# Altium integrated library Linear Technology PMIC-Switching Reg LTC1174-LTC3901.IntLib: 2647 symbols (part 238 of 310)
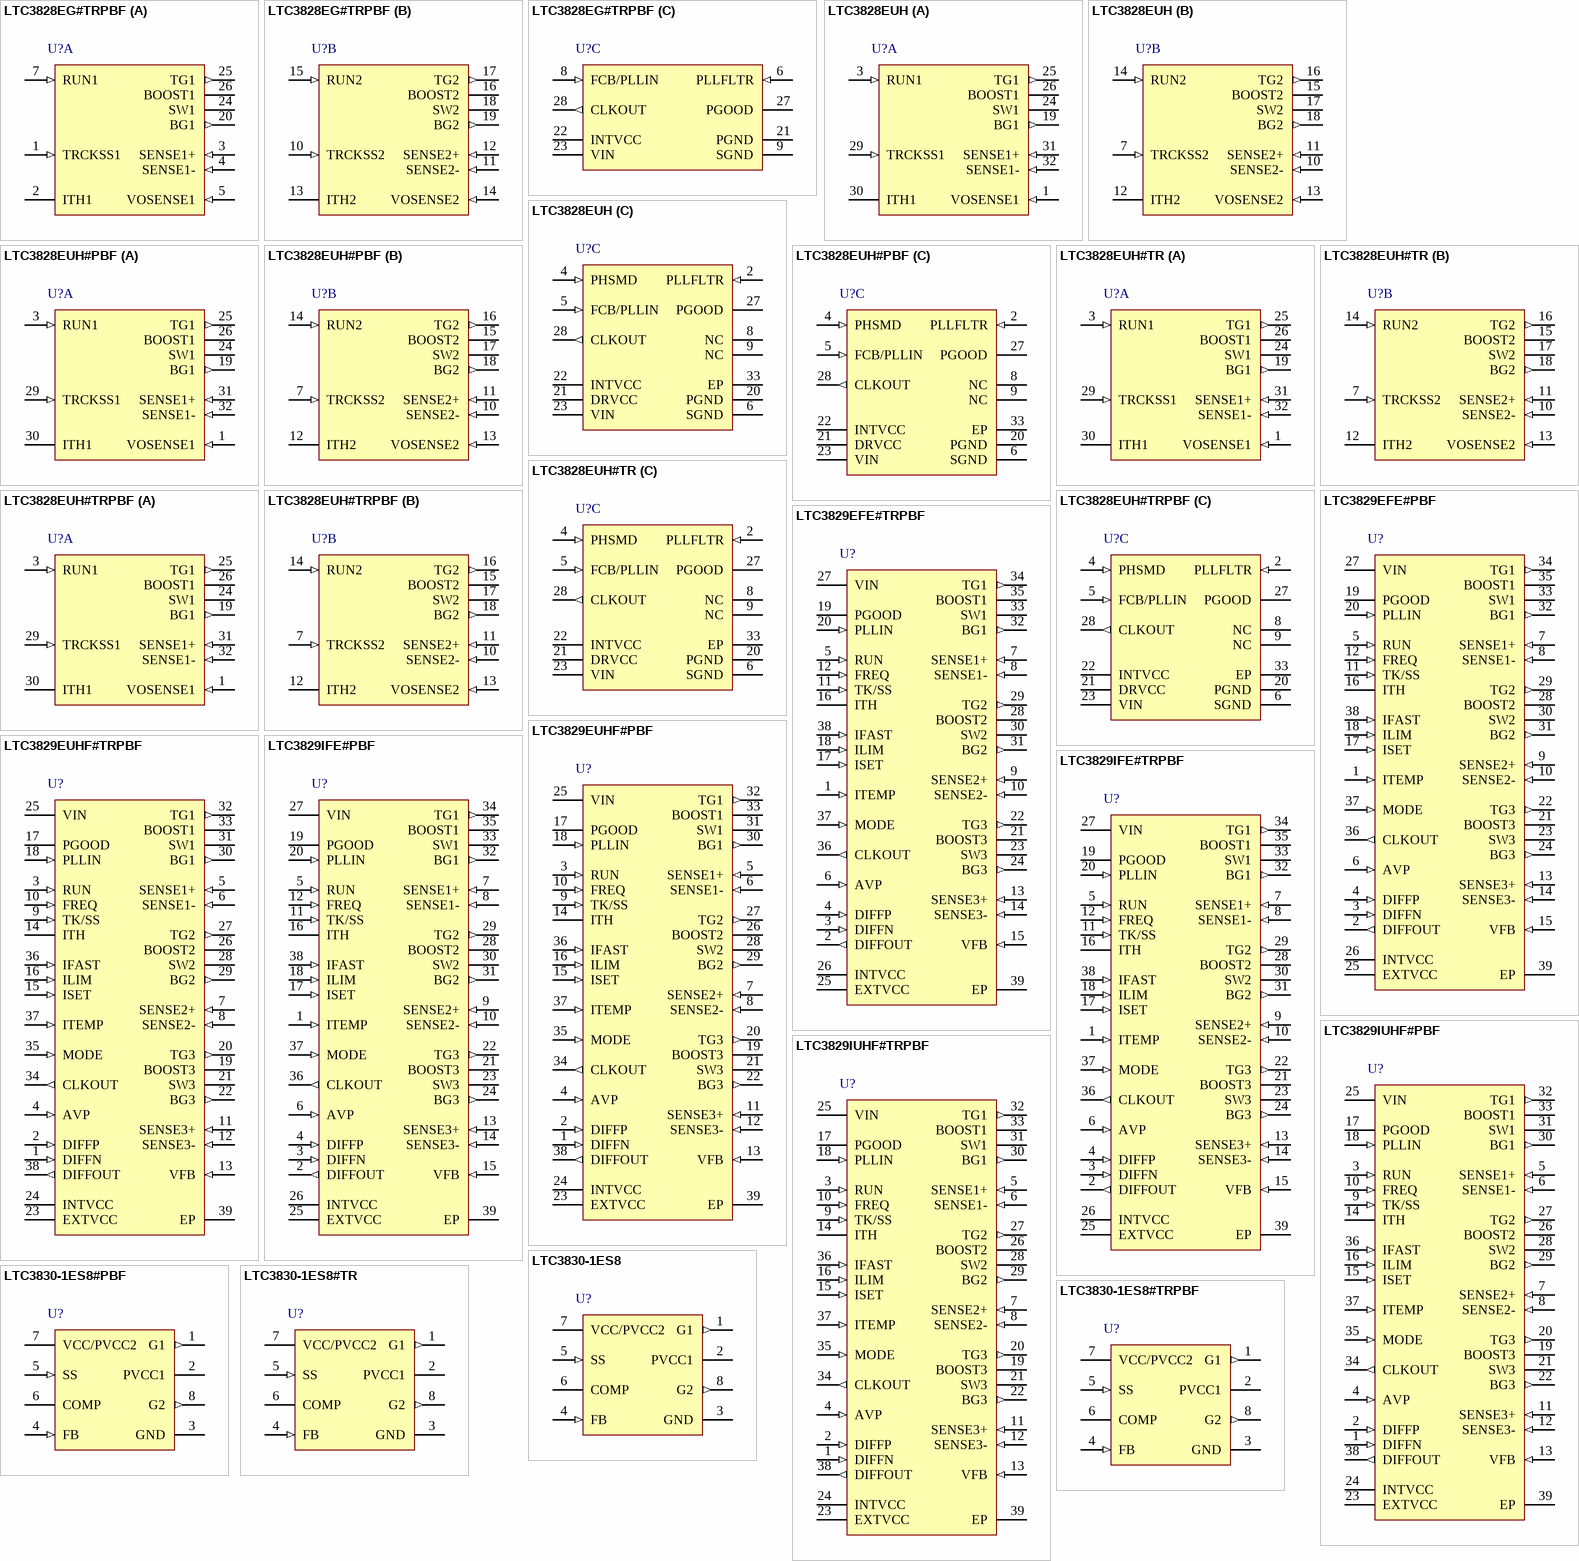
[diagram p256: symbols LTC3828EG#TRPBF to LTC3830-1ES8#TRPBF]

## LTC3829IFE#TRPBF
designator U?
3-Phase, Single Output Synchronous Step-Down DC/DC Controller with Differential Amplifier, 38-pin SOP (FE-38-EPV-AA), -40 to 125 degC, Pb-Free, Tape and Reel; Manufacturer: Linear Technology; PartNumber: LTC3829IFE#TRPBF; Number of Outputs: 1; PackageReference: FE-38; PackageDescription: 38-Pin Plastic TSSOP, Body 9.7 x 4.4 mm, Pitch 0.5 mm; Supplier 1: Digi-Key; Supplier Part Number 1: LTC3829IFE#TRPBF-ND; RoHS: TRUE
footprint LT-FE-38-EPV-AA_N (SOP, 38-Leads, Body 9.8x4.5mm, Pitch 0.5mm, Thermal Pad 4.75x2.74mm, IPC Medium Density)
footprint LT-FE-38-EPV-AA_L (SOP, 38-Leads, Body 9.8x4.5mm, Pitch 0.5mm, Thermal Pad 4.75x2.74mm, IPC High Density)
footprint LT-FE-38-EPV-AA_M (SOP, 38-Leads, Body 9.8x4.5mm, Pitch 0.5mm, Thermal Pad 4.75x2.74mm, IPC Low Density)
pins: 1 ITEMP (in) "Input of the Temperature Sensing Comparator. Connect this pin to external NTC resistors placed near inductors.", 2 DIFFOUT (out) "Output of Remote Sensing Differential Amplifier. Connect this pin to VFB through a resistive divider.", 3 DIFFN (in) "Negative Input of Remote Sensing Differential Amplifier. Connect this to the remote load ground pin.", 4 DIFFP (in) "Positive Input of Remote Sensing Differential Amplifier. Must connect this to the remote load positive terminal directly even when diffamp is not used.", 5 RUN (in) "Run Control Input. A voltage above 1.22V on this pin turns on the IC. There is a 1.0uA pull-up current for this pin. Once the RUN pin rises above 1.22V, an additional 4.5uA pull-up current is added to the pin.", 6 AVP (in) "Active Voltage Positioning Load Slope Programming Pin. A resistor tied between this pin and the DIFFP pin sets the load slope. The AVP function can only be used with the remote sensing differential amplifier. Short AVP pin (See Datasheet)", 7 SENSE1+ (in) "Current Sense Comparator Inputs. The (+) inputs to the current comparators are normally connected to DCR sensing networks or current sensing resistors.", 8 SENSE1- (in) "Current Sense Comparator Inputs. The (-) inputs to the current comparators are connected to the output.", 9 SENSE2+ (in) "Current Sense Comparator Inputs. The (+) inputs to the current comparators are normally connected to DCR sensing networks or current sensing resistors", 10 SENSE2- (in) "Current Sense Comparator Inputs. The (-) inputs to the current comparators are connected to the output.", 11 TK/SS (in) "Output Voltage Tracking and Soft- Start Input. When one particular IC is configured to be the master of two ICs, a capacitor to ground at this pin sets the ramp rate for the master IC’s output voltage. When the IC i(See Datasheet)", 12 FREQ (in) "There is a precision 10uA current sourced out of this pin. A resistor to ground sets a voltage which in turn programs the frequency. Alternatively, this pin can be driven with a DC voltage to vary the frequency of the (See Datasheet)", 13 SENSE3+ (in) "Current Sense Comparator Inputs. The (+) inputs to the current comparators are normally connected to DCR sensing networks or current sensing resistors.", 14 SENSE3- (in) "Current Sense Comparator Inputs. The (-) inputs to the current comparators are connected to the output.", 15 VFB (in) "Error Amplifier Feedback Input. This pin receives the remotely sensed feedback voltage from an external resistive divider", 16 ITH "Current Control Threshold and Error Amplifier Compensation Point. Each associated channels?current comparator tripping threshold increases with this ITH control voltage.", 17 ISET (in) "Stage Shedding Comparator and Burst Mode Comparator Programming Pin. A resistor to ground programs the stage shedding comparator threshold or Burst Mode comparator threshold and its current limit depending on MODE pin (See Datasheet)", 18 ILIM (in) "Current Comparator Sense Voltage Range Pin. This pin is to be programmed to SGND, FLOAT or INTVCC to set the maximum current sense threshold to one of three different levels for each comparator.", 19 PGOOD (oc) "Power Good Indicator Output. Open-drain logic out that is pulled to ground when the output exceeds +/-10% regulation window after the internal 100us power bad mask timer expires.", 20 PLLIN (in) "External Synchronization Pin. A clock on the pin synchronizes the internal oscillator with the clock on this pin.", 21 BOOST3 "Boosted Floating Driver Supplies. The (+) terminal of the bootstrap capacitors connect to these pins. These pins swing from a diode voltage drop below INTVCC up to VIN + INTVCC.", 22 TG3 (out) "Top Gate Driver Outputs. These are the outputs of floating drivers with a voltage swing equal to INTVCC superimposed on the switch nodes voltages.", 23 SW3 "Switch Node Connections to Inductors. Voltage swing at these pins is from a Schottky diode (external) voltage drop below ground to VIN", 24 BG3 (out) "Bottom Gate Driver Outputs. These pins drive the gates of the bottom N-channel MOSFETs between PGND and INTVCC.", 25 EXTVCC (power) "External Power Input to an Internal Switch Connected to INTVCC. This switch closes and supplies the IC power, bypassing the internal low dropout regulator, whenever EXTVCC is higher than 4.7V. Do not exceed 6V on this pin (See Datasheet)", 26 INTVCC (power) "Internal 5V Regulator Output. The control circuits are powered from this voltage. Decouple this pin to PGND with a minimum of 4.7uF low ESR tantalum or ceramic capacitor.", 27 VIN (power) "Main Input Supply. Decouple this pin to PGND with a capacitor (0.1uF to 1uF).", 28 BOOST2 "Boosted Floating Driver Supplies. The (+) terminal of the bootstrap capacitors connect to these pins. These pins swing from a diode voltage drop below INTVCC up to VIN + INTVCC.", 29 TG2 (out) "Top Gate Driver Outputs. These are the outputs of floating drivers with a voltage swing equal to INTVCC superimposed on the switch nodes voltages.", 30 SW2 "Switch Node Connections to Inductors. Voltage swing at these pins is from a Schottky diode (external) voltage drop below ground to VIN", 31 BG2 (out) "Bottom Gate Driver Outputs. These pins drive the gates of the bottom N-channel MOSFETs between PGND and INTVCC.", 32 BG1 (out) "Bottom Gate Driver Outputs. These pins drive the gates of the bottom N-channel MOSFETs between PGND and INTVCC.", 33 SW1 "Switch Node Connections to Inductors. Voltage swing at these pins is from a Schottky diode (external) voltage drop below ground to VIN", 34 TG1 (out) "Top Gate Driver Outputs. These are the outputs of floating drivers with a voltage swing equal to INTVCC superimposed on the switch nodes voltages.", 35 BOOST1 "Boosted Floating Driver Supplies. The (+) terminal of the bootstrap capacitors connect to these pins. These pins swing from a diode voltage drop below INTVCC up to VIN + INTVCC.", 36 CLKOUT (out) "Clock Output Pin. CLKOUT is 60degrees out of phase relative to channel 1 in non-shedding mode. During stage shedding, CLKOUT is 180degrees out of phase with channel 1.", 37 MODE (in) "Forced Continuous Mode, Burst Mode or Shed Mode Selection Pin. Connect this pin to SGND to force IC in continuous mode of operation. Connect to INTVCC to enable shed mode operation. Leave the pin floating to enable Burst (See Datasheet)", 38 IFAST (in) "Programmable Pin for Nonlinear Control Trip Threshold. A resistor to ground programs the tripping threshold for nonlinear control circuit. Connect this pin to INTVCC to disable this feature. See Applications Information (See Datasheet)", 39 EP (power) "Combined Signal and Power Ground Pad. Connect this pad closely to the sources of the bottom N-channel MOSFETs, the (-) terminal of CVCC and the (-) terminal of CIN. All small-signal components and compensation components (See Datasheet)"

## LTC3829IUHF#PBF
designator U?
3-Phase, Single Output Synchronous Step-Down DC/DC Controller with Differential Amplifier, 38-pin QFN (UHF-38), -40 to 125 degC, Pb-Free; Manufacturer: Linear Technology; PartNumber: LTC3829IUHF#PBF; Number of Outputs: 1; PackageReference: UHF-38; PackageDescription: 38-Pin Plastic QFN, Body 7 x 5 mm, Pitch 0.5 mm; Supplier 1: Digi-Key; Supplier Part Number 1: LTC3829IUHF#PBF-ND; RoHS: TRUE; Code_JEDEC: MO-220
footprint LT-UHF-38_N (QFN, 38-Leads, Body 7.1x5.1mm, Pitch 0.5mm, Thermal Pad 3.15x5.15mm, IPC Medium Density)
footprint LT-UHF-38_L (QFN, 38-Leads, Body 7.1x5.1mm, Pitch 0.5mm, Thermal Pad 3.15x5.15mm, IPC High Density)
footprint LT-UHF-38_M (QFN, 38-Leads, Body 7.1x5.1mm, Pitch 0.5mm, Thermal Pad 3.15x5.15mm, IPC Low Density)
pins: 1 DIFFN (in) "Negative Input of Remote Sensing Differential Amplifier. Connect this to the remote load ground pin.", 2 DIFFP (in) "Positive Input of Remote Sensing Differential Amplifier. Must connect this to the remote load positive terminal directly even when diffamp is not used.", 3 RUN (in) "Run Control Input. A voltage above 1.22V on this pin turns on the IC. There is a 1.0uA pull-up current for this pin. Once the RUN pin rises above 1.22V, an additional 4.5uA pull-up current is added to the pin.", 4 AVP (in) "Active Voltage Positioning Load Slope Programming Pin. A resistor tied between this pin and the DIFFP pin sets the load slope. The AVP function can only be used with the remote sensing differential amplifier. Short AVP pin (See Datasheet)", 5 SENSE1+ (in) "Current Sense Comparator Inputs. The (+) inputs to the current comparators are normally connected to DCR sensing networks or current sensing resistors.", 6 SENSE1- (in) "Current Sense Comparator Inputs. The (-) inputs to the current comparators are connected to the output.", 7 SENSE2+ (in) "Current Sense Comparator Inputs. The (+) inputs to the current comparators are normally connected to DCR sensing networks or current sensing resistors.", 8 SENSE2- (in) "Current Sense Comparator Inputs. The (-) inputs to the current comparators are connected to the output.", 9 TK/SS (in) "Output Voltage Tracking and Soft- Start Input. When one particular IC is configured to be the master of two ICs, a capacitor to ground at this pin sets the ramp rate for the master IC’s output voltage. When the IC i(See Datasheet)", 10 FREQ (in) "There is a precision 10uA current sourced out of this pin. A resistor to ground sets a voltage which in turn programs the frequency. Alternatively, this pin can be driven with a DC voltage to vary the frequency of the (See Datasheet)", 11 SENSE3+ (in) "Current Sense Comparator Inputs. The (+) inputs to the current comparators are normally connected to DCR sensing networks or current sensing resistors.", 12 SENSE3- (in) "Current Sense Comparator Inputs. The (-) inputs to the current comparators are connected to the output.", 13 VFB (in) "Error Amplifier Feedback Input. This pin receives the remotely sensed feedback voltage from an external resistive divider", 14 ITH "Current Control Threshold and Error Amplifier Compensation Point. Each associated channels?current comparator tripping threshold increases with this ITH control voltage.", 15 ISET (in) "Stage Shedding Comparator and Burst Mode Comparator Programming Pin. A resistor to ground programs the stage shedding comparator threshold or Burst Mode comparator threshold and its current limit depending on MODE pin (See Datasheet)", 16 ILIM (in) "Current Comparator Sense Voltage Range Pin. This pin is to be programmed to SGND, FLOAT or INTVCC to set the maximum current sense threshold to one of three different levels for each comparator.", 17 PGOOD (oc) "Power Good Indicator Output. Open-drain logic out that is pulled to ground when the output exceeds +/-10% regulation window after the internal 100us power bad mask timer expires.", 18 PLLIN (in) "External Synchronization Pin. A clock on the pin synchronizes the internal oscillator with the clock on this pin.", 19 BOOST3 "Boosted Floating Driver Supplies. The (+) terminal of the bootstrap capacitors connect to these pins. These pins swing from a diode voltage drop below INTVCC up to VIN + INTVCC.", 20 TG3 (out) "Top Gate Driver Outputs. These are the outputs of floating drivers with a voltage swing equal to INTVCC superimposed on the switch nodes voltages.", 21 SW3 "Switch Node Connections to Inductors. Voltage swing at these pins is from a Schottky diode (external) voltage drop below ground to VIN.", 22 BG3 (out) "Bottom Gate Driver Outputs. These pins drive the gates of the bottom N-channel MOSFETs between PGND and INTVCC.", 23 EXTVCC (power) "External Power Input to an Internal Switch Connected to INTVCC. This switch closes and supplies the IC power, bypassing the internal low dropout regulator, whenever EXTVCC is higher than 4.7V. Do not exceed 6V on this pin (See Datasheet)", 24 INTVCC (power) "Internal 5V Regulator Output. The control circuits are powered from this voltage. Decouple this pin to PGND with a minimum of 4.7uF low ESR tantalum or ceramic capacitor.", 25 VIN (power) "Main Input Supply. Decouple this pin to PGND with a capacitor (0.1uF to 1uF).", 26 BOOST2 "Boosted Floating Driver Supplies. The (+) terminal of the bootstrap capacitors connect to these pins. These pins swing from a diode voltage drop below INTVCC up to VIN + INTVCC.", 27 TG2 (out) "Top Gate Driver Outputs. These are the outputs of floating drivers with a voltage swing equal to INTVCC superimposed on the switch nodes voltages.", 28 SW2 "Switch Node Connections to Inductors. Voltage swing at these pins is from a Schottky diode (external) voltage drop below ground to VIN.", 29 BG2 (out) "Bottom Gate Driver Outputs. These pins drive the gates of the bottom N-channel MOSFETs between PGND and INTVCC.", 30 BG1 (out) "Bottom Gate Driver Outputs. These pins drive the gates of the bottom N-channel MOSFETs between PGND and INTVCC.", 31 SW1 "Switch Node Connections to Inductors. Voltage swing at these pins is from a Schottky diode (external) voltage drop below ground to VIN.", 32 TG1 (out) "Top Gate Driver Outputs. These are the outputs of floating drivers with a voltage swing equal to INTVCC superimposed on the switch nodes voltages.", 33 BOOST1 "Boosted Floating Driver Supplies. The (+) terminal of the bootstrap capacitors connect to these pins. These pins swing from a diode voltage drop below INTVCC up to VIN + INTVCC.", 34 CLKOUT (out) "Clock Output Pin. CLKOUT is 60degrees out of phase relative to channel 1 in non-shedding mode. During stage shedding, CLKOUT is 180degrees out of phase with channel 1.", 35 MODE (in) "Forced Continuous Mode, Burst Mode or Shed Mode Selection Pin. Connect this pin to SGND to force IC in continuous mode of operation. Connect to INTVCC to enable shed mode operation. Leave the pin floating to enable Burst (See Datasheet)", 36 IFAST (in) "Programmable Pin for Nonlinear Control Trip Threshold. A resistor to ground programs the tripping threshold for nonlinear control circuit. Connect this pin to INTVCC to disable this feature. See Applications Information (See Datasheet)", 37 ITEMP (in) "Input of the Temperature Sensing Comparator. Connect this pin to external NTC resistors placed near inductors.", 38 DIFFOUT (out) "Output of Remote Sensing Differential Amplifier. Connect this pin to VFB through a resistive divider.", 39 EP (power) "Combined Signal and Power Ground Pad. Connect this pad closely to the sources of the bottom N-channel MOSFETs, the (-) terminal of CVCC and the (-) terminal of CIN. All small-signal components and compensation components (See Datasheet)"

## LTC3829IUHF#TRPBF
designator U?
3-Phase, Single Output Synchronous Step-Down DC/DC Controller with Differential Amplifier, 38-pin QFN (UHF-38), -40 to 125 degC, Pb-Free, Tape and Reel; Manufacturer: Linear Technology; PartNumber: LTC3829IUHF#TRPBF; Number of Outputs: 1; PackageReference: UHF-38; PackageDescription: 38-Pin Plastic QFN, Body 7 x 5 mm, Pitch 0.5 mm; Supplier 1: Digi-Key; Supplier Part Number 1: LTC3829IUHF#TRPBF-ND; RoHS: TRUE; Code_JEDEC: MO-220
footprint LT-UHF-38_N (QFN, 38-Leads, Body 7.1x5.1mm, Pitch 0.5mm, Thermal Pad 3.15x5.15mm, IPC Medium Density)
footprint LT-UHF-38_L (QFN, 38-Leads, Body 7.1x5.1mm, Pitch 0.5mm, Thermal Pad 3.15x5.15mm, IPC High Density)
footprint LT-UHF-38_M (QFN, 38-Leads, Body 7.1x5.1mm, Pitch 0.5mm, Thermal Pad 3.15x5.15mm, IPC Low Density)
pins: 1 DIFFN (in) "Negative Input of Remote Sensing Differential Amplifier. Connect this to the remote load ground pin.", 2 DIFFP (in) "Positive Input of Remote Sensing Differential Amplifier. Must connect this to the remote load positive terminal directly even when diffamp is not used.", 3 RUN (in) "Run Control Input. A voltage above 1.22V on this pin turns on the IC. There is a 1.0uA pull-up current for this pin. Once the RUN pin rises above 1.22V, an additional 4.5uA pull-up current is added to the pin.", 4 AVP (in) "Active Voltage Positioning Load Slope Programming Pin. A resistor tied between this pin and the DIFFP pin sets the load slope. The AVP function can only be used with the remote sensing differential amplifier. Short AVP pin (See Datasheet)", 5 SENSE1+ (in) "Current Sense Comparator Inputs. The (+) inputs to the current comparators are normally connected to DCR sensing networks or current sensing resistors.", 6 SENSE1- (in) "Current Sense Comparator Inputs. The (-) inputs to the current comparators are connected to the output.", 7 SENSE2+ (in) "Current Sense Comparator Inputs. The (+) inputs to the current comparators are normally connected to DCR sensing networks or current sensing resistors.", 8 SENSE2- (in) "Current Sense Comparator Inputs. The (-) inputs to the current comparators are connected to the output.", 9 TK/SS (in) "Output Voltage Tracking and Soft- Start Input. When one particular IC is configured to be the master of two ICs, a capacitor to ground at this pin sets the ramp rate for the master IC’s output voltage. When the IC i(See Datasheet)", 10 FREQ (in) "There is a precision 10uA current sourced out of this pin. A resistor to ground sets a voltage which in turn programs the frequency. Alternatively, this pin can be driven with a DC voltage to vary the frequency of the (See Datasheet)", 11 SENSE3+ (in) "Current Sense Comparator Inputs. The (+) inputs to the current comparators are normally connected to DCR sensing networks or current sensing resistors.", 12 SENSE3- (in) "Current Sense Comparator Inputs. The (-) inputs to the current comparators are connected to the output.", 13 VFB (in) "Error Amplifier Feedback Input. This pin receives the remotely sensed feedback voltage from an external resistive divider", 14 ITH "Current Control Threshold and Error Amplifier Compensation Point. Each associated channels?current comparator tripping threshold increases with this ITH control voltage.", 15 ISET (in) "Stage Shedding Comparator and Burst Mode Comparator Programming Pin. A resistor to ground programs the stage shedding comparator threshold or Burst Mode comparator threshold and its current limit depending on MODE pin (See Datasheet)", 16 ILIM (in) "Current Comparator Sense Voltage Range Pin. This pin is to be programmed to SGND, FLOAT or INTVCC to set the maximum current sense threshold to one of three different levels for each comparator.", 17 PGOOD (oc) "Power Good Indicator Output. Open-drain logic out that is pulled to ground when the output exceeds +/-10% regulation window after the internal 100us power bad mask timer expires.", 18 PLLIN (in) "External Synchronization Pin. A clock on the pin synchronizes the internal oscillator with the clock on this pin.", 19 BOOST3 "Boosted Floating Driver Supplies. The (+) terminal of the bootstrap capacitors connect to these pins. These pins swing from a diode voltage drop below INTVCC up to VIN + INTVCC.", 20 TG3 (out) "Top Gate Driver Outputs. These are the outputs of floating drivers with a voltage swing equal to INTVCC superimposed on the switch nodes voltages.", 21 SW3 "Switch Node Connections to Inductors. Voltage swing at these pins is from a Schottky diode (external) voltage drop below ground to VIN.", 22 BG3 (out) "Bottom Gate Driver Outputs. These pins drive the gates of the bottom N-channel MOSFETs between PGND and INTVCC.", 23 EXTVCC (power) "External Power Input to an Internal Switch Connected to INTVCC. This switch closes and supplies the IC power, bypassing the internal low dropout regulator, whenever EXTVCC is higher than 4.7V. Do not exceed 6V on this pin (See Datasheet)", 24 INTVCC (power) "Internal 5V Regulator Output. The control circuits are powered from this voltage. Decouple this pin to PGND with a minimum of 4.7uF low ESR tantalum or ceramic capacitor.", 25 VIN (power) "Main Input Supply. Decouple this pin to PGND with a capacitor (0.1uF to 1uF).", 26 BOOST2 "Boosted Floating Driver Supplies. The (+) terminal of the bootstrap capacitors connect to these pins. These pins swing from a diode voltage drop below INTVCC up to VIN + INTVCC.", 27 TG2 (out) "Top Gate Driver Outputs. These are the outputs of floating drivers with a voltage swing equal to INTVCC superimposed on the switch nodes voltages.", 28 SW2 "Switch Node Connections to Inductors. Voltage swing at these pins is from a Schottky diode (external) voltage drop below ground to VIN.", 29 BG2 (out) "Bottom Gate Driver Outputs. These pins drive the gates of the bottom N-channel MOSFETs between PGND and INTVCC.", 30 BG1 (out) "Bottom Gate Driver Outputs. These pins drive the gates of the bottom N-channel MOSFETs between PGND and INTVCC.", 31 SW1 "Switch Node Connections to Inductors. Voltage swing at these pins is from a Schottky diode (external) voltage drop below ground to VIN.", 32 TG1 (out) "Top Gate Driver Outputs. These are the outputs of floating drivers with a voltage swing equal to INTVCC superimposed on the switch nodes voltages.", 33 BOOST1 "Boosted Floating Driver Supplies. The (+) terminal of the bootstrap capacitors connect to these pins. These pins swing from a diode voltage drop below INTVCC up to VIN + INTVCC.", 34 CLKOUT (out) "Clock Output Pin. CLKOUT is 60degrees out of phase relative to channel 1 in non-shedding mode. During stage shedding, CLKOUT is 180degrees out of phase with channel 1.", 35 MODE (in) "Forced Continuous Mode, Burst Mode or Shed Mode Selection Pin. Connect this pin to SGND to force IC in continuous mode of operation. Connect to INTVCC to enable shed mode operation. Leave the pin floating to enable Burst (See Datasheet)", 36 IFAST (in) "Programmable Pin for Nonlinear Control Trip Threshold. A resistor to ground programs the tripping threshold for nonlinear control circuit. Connect this pin to INTVCC to disable this feature. See Applications Information (See Datasheet)", 37 ITEMP (in) "Input of the Temperature Sensing Comparator. Connect this pin to external NTC resistors placed near inductors.", 38 DIFFOUT (out) "Output of Remote Sensing Differential Amplifier. Connect this pin to VFB through a resistive divider.", 39 EP (power) "Combined Signal and Power Ground Pad. Connect this pad closely to the sources of the bottom N-channel MOSFETs, the (-) terminal of CVCC and the (-) terminal of CIN. All small-signal components and compensation components (See Datasheet)"

## LTC3830-1ES8
designator U?
High Power Step-Down Synchronous DC/DC Controller for Low Voltage Operation, 8-pin SOIC (S8-8), -40 to 85 degC; Manufacturer: Linear Technology; PartNumber: LTC3830-1ES8; Number of Outputs: 1; PackageReference: S8-8; PackageDescription: 8-Pin Plastic Small Outline (Narrow .150 Inch), Body 4.9 x 3.9 mm, Pitch 1.27 mm; Supplier 1: Digi-Key; Supplier Part Number 1: LTC3830-1ES8-ND; RoHS: FALSE
footprint LT-S8-8_N (SOIC, 8-Leads, Body 5x4mm, Pitch 1.27mm, IPC Medium Density)
footprint LT-S8-8_L (SOIC, 8-Leads, Body 5x4mm, Pitch 1.27mm, IPC High Density)
footprint LT-S8-8_M (SOIC, 8-Leads, Body 5x4mm, Pitch 1.27mm, IPC Low Density)
pins: 1 G1 (out) "Top Gate Driver Output. Connect this pin to the gate of the upper N-channel MOSFET, Q1. This output swings from PGND to PVCC1. It remains low if G2 is high or during shutdown mode.", 2 PVCC1 (power) "Power Supply Input for G1. Connect this pin to a potential of at least VIN + VGS(ON)(Q1). This potential can be generated using an external supply or charge pump.", 3 GND (power) "Signal Ground. All low power internal circuitry returns to this pin.", 4 FB (in) "These three pins connect to the internal resistor divider and input of the error amplifier.", 5 SS (in) "Soft-Start. Connect this pin to an external capacitor, CSS, to implement a soft-start function.", 6 COMP "External Compensation. This pin internally connects to the output of the error amplifier and input of the PWM comparator. Use a RC + C network at this pin to compensate the feedback loop to provide optimum transient response.", 7 VCC/PVCC2 (power), 8 G2 (out) "Bottom Gate Driver Output. Connect this pin to the gate of the lower N-channel MOSFET, Q2. This output swings from PGND to PVCC2. It remains low when G1 is high or during shutdown mode. To prevent output undershoot during a (See Datasheet)"

## LTC3830-1ES8#PBF
designator U?
High Power Step-Down Synchronous DC/DC Controller for Low Voltage Operation, 8-pin SOIC (S8-8), -40 to 85 degC, Pb-Free; Manufacturer: Linear Technology; PartNumber: LTC3830-1ES8#PBF; Number of Outputs: 1; PackageReference: S8-8; PackageDescription: 8-Pin Plastic Small Outline (Narrow .150 Inch), Body 4.9 x 3.9 mm, Pitch 1.27 mm; Supplier 1: Digi-Key; Supplier Part Number 1: LTC3830-1ES8#PBF-ND; RoHS: TRUE
footprint LT-S8-8_N (SOIC, 8-Leads, Body 5x4mm, Pitch 1.27mm, IPC Medium Density)
footprint LT-S8-8_L (SOIC, 8-Leads, Body 5x4mm, Pitch 1.27mm, IPC High Density)
footprint LT-S8-8_M (SOIC, 8-Leads, Body 5x4mm, Pitch 1.27mm, IPC Low Density)
pins: 1 G1 (out) "Top Gate Driver Output. Connect this pin to the gate of the upper N-channel MOSFET, Q1. This output swings from PGND to PVCC1. It remains low if G2 is high or during shutdown mode.", 2 PVCC1 (power) "Power Supply Input for G1. Connect this pin to a potential of at least VIN + VGS(ON)(Q1). This potential can be generated using an external supply or charge pump.", 3 GND (power) "Signal Ground. All low power internal circuitry returns to this pin.", 4 FB (in) "These three pins connect to the internal resistor divider and input of the error amplifier.", 5 SS (in) "Soft-Start. Connect this pin to an external capacitor, CSS, to implement a soft-start function.", 6 COMP "External Compensation. This pin internally connects to the output of the error amplifier and input of the PWM comparator. Use a RC + C network at this pin to compensate the feedback loop to provide optimum transient response.", 7 VCC/PVCC2 (power), 8 G2 (out) "Bottom Gate Driver Output. Connect this pin to the gate of the lower N-channel MOSFET, Q2. This output swings from PGND to PVCC2. It remains low when G1 is high or during shutdown mode. To prevent output undershoot during a (See Datasheet)"

## LTC3830-1ES8#TR
designator U?
High Power Step-Down Synchronous DC/DC Controller for Low Voltage Operation, 8-pin SOIC (S8-8), -40 to 85 degC, Tape and Reel; Manufacturer: Linear Technology; PartNumber: LTC3830-1ES8#TR; Number of Outputs: 1; PackageReference: S8-8; PackageDescription: 8-Pin Plastic Small Outline (Narrow .150 Inch), Body 4.9 x 3.9 mm, Pitch 1.27 mm; Supplier 1: Digi-Key; Supplier Part Number 1: LTC3830-1ES8TR-ND; RoHS: FALSE
footprint LT-S8-8_N (SOIC, 8-Leads, Body 5x4mm, Pitch 1.27mm, IPC Medium Density)
footprint LT-S8-8_L (SOIC, 8-Leads, Body 5x4mm, Pitch 1.27mm, IPC High Density)
footprint LT-S8-8_M (SOIC, 8-Leads, Body 5x4mm, Pitch 1.27mm, IPC Low Density)
pins: 1 G1 (out) "Top Gate Driver Output. Connect this pin to the gate of the upper N-channel MOSFET, Q1. This output swings from PGND to PVCC1. It remains low if G2 is high or during shutdown mode.", 2 PVCC1 (power) "Power Supply Input for G1. Connect this pin to a potential of at least VIN + VGS(ON)(Q1). This potential can be generated using an external supply or charge pump.", 3 GND (power) "Signal Ground. All low power internal circuitry returns to this pin.", 4 FB (in) "These three pins connect to the internal resistor divider and input of the error amplifier.", 5 SS (in) "Soft-Start. Connect this pin to an external capacitor, CSS, to implement a soft-start function.", 6 COMP "External Compensation. This pin internally connects to the output of the error amplifier and input of the PWM comparator. Use a RC + C network at this pin to compensate the feedback loop to provide optimum transient response.", 7 VCC/PVCC2 (power), 8 G2 (out) "Bottom Gate Driver Output. Connect this pin to the gate of the lower N-channel MOSFET, Q2. This output swings from PGND to PVCC2. It remains low when G1 is high or during shutdown mode. To prevent output undershoot during a (See Datasheet)"

## LTC3830-1ES8#TRPBF
designator U?
High Power Step-Down Synchronous DC/DC Controller for Low Voltage Operation, 8-pin SOIC (S8-8), -40 to 85 degC, Pb-Free, Tape and Reel; Manufacturer: Linear Technology; PartNumber: LTC3830-1ES8#TRPBF; Number of Outputs: 1; PackageReference: S8-8; PackageDescription: 8-Pin Plastic Small Outline (Narrow .150 Inch), Body 4.9 x 3.9 mm, Pitch 1.27 mm; Supplier 1: Digi-Key; Supplier Part Number 1: LTC3830-1ES8#TRPBF-ND; RoHS: TRUE
footprint LT-S8-8_N (SOIC, 8-Leads, Body 5x4mm, Pitch 1.27mm, IPC Medium Density)
footprint LT-S8-8_L (SOIC, 8-Leads, Body 5x4mm, Pitch 1.27mm, IPC High Density)
footprint LT-S8-8_M (SOIC, 8-Leads, Body 5x4mm, Pitch 1.27mm, IPC Low Density)
pins: 1 G1 (out) "Top Gate Driver Output. Connect this pin to the gate of the upper N-channel MOSFET, Q1. This output swings from PGND to PVCC1. It remains low if G2 is high or during shutdown mode.", 2 PVCC1 (power) "Power Supply Input for G1. Connect this pin to a potential of at least VIN + VGS(ON)(Q1). This potential can be generated using an external supply or charge pump.", 3 GND (power) "Signal Ground. All low power internal circuitry returns to this pin.", 4 FB (in) "These three pins connect to the internal resistor divider and input of the error amplifier.", 5 SS (in) "Soft-Start. Connect this pin to an external capacitor, CSS, to implement a soft-start function.", 6 COMP "External Compensation. This pin internally connects to the output of the error amplifier and input of the PWM comparator. Use a RC + C network at this pin to compensate the feedback loop to provide optimum transient response.", 7 VCC/PVCC2 (power), 8 G2 (out) "Bottom Gate Driver Output. Connect this pin to the gate of the lower N-channel MOSFET, Q2. This output swings from PGND to PVCC2. It remains low when G1 is high or during shutdown mode. To prevent output undershoot during a (See Datasheet)"

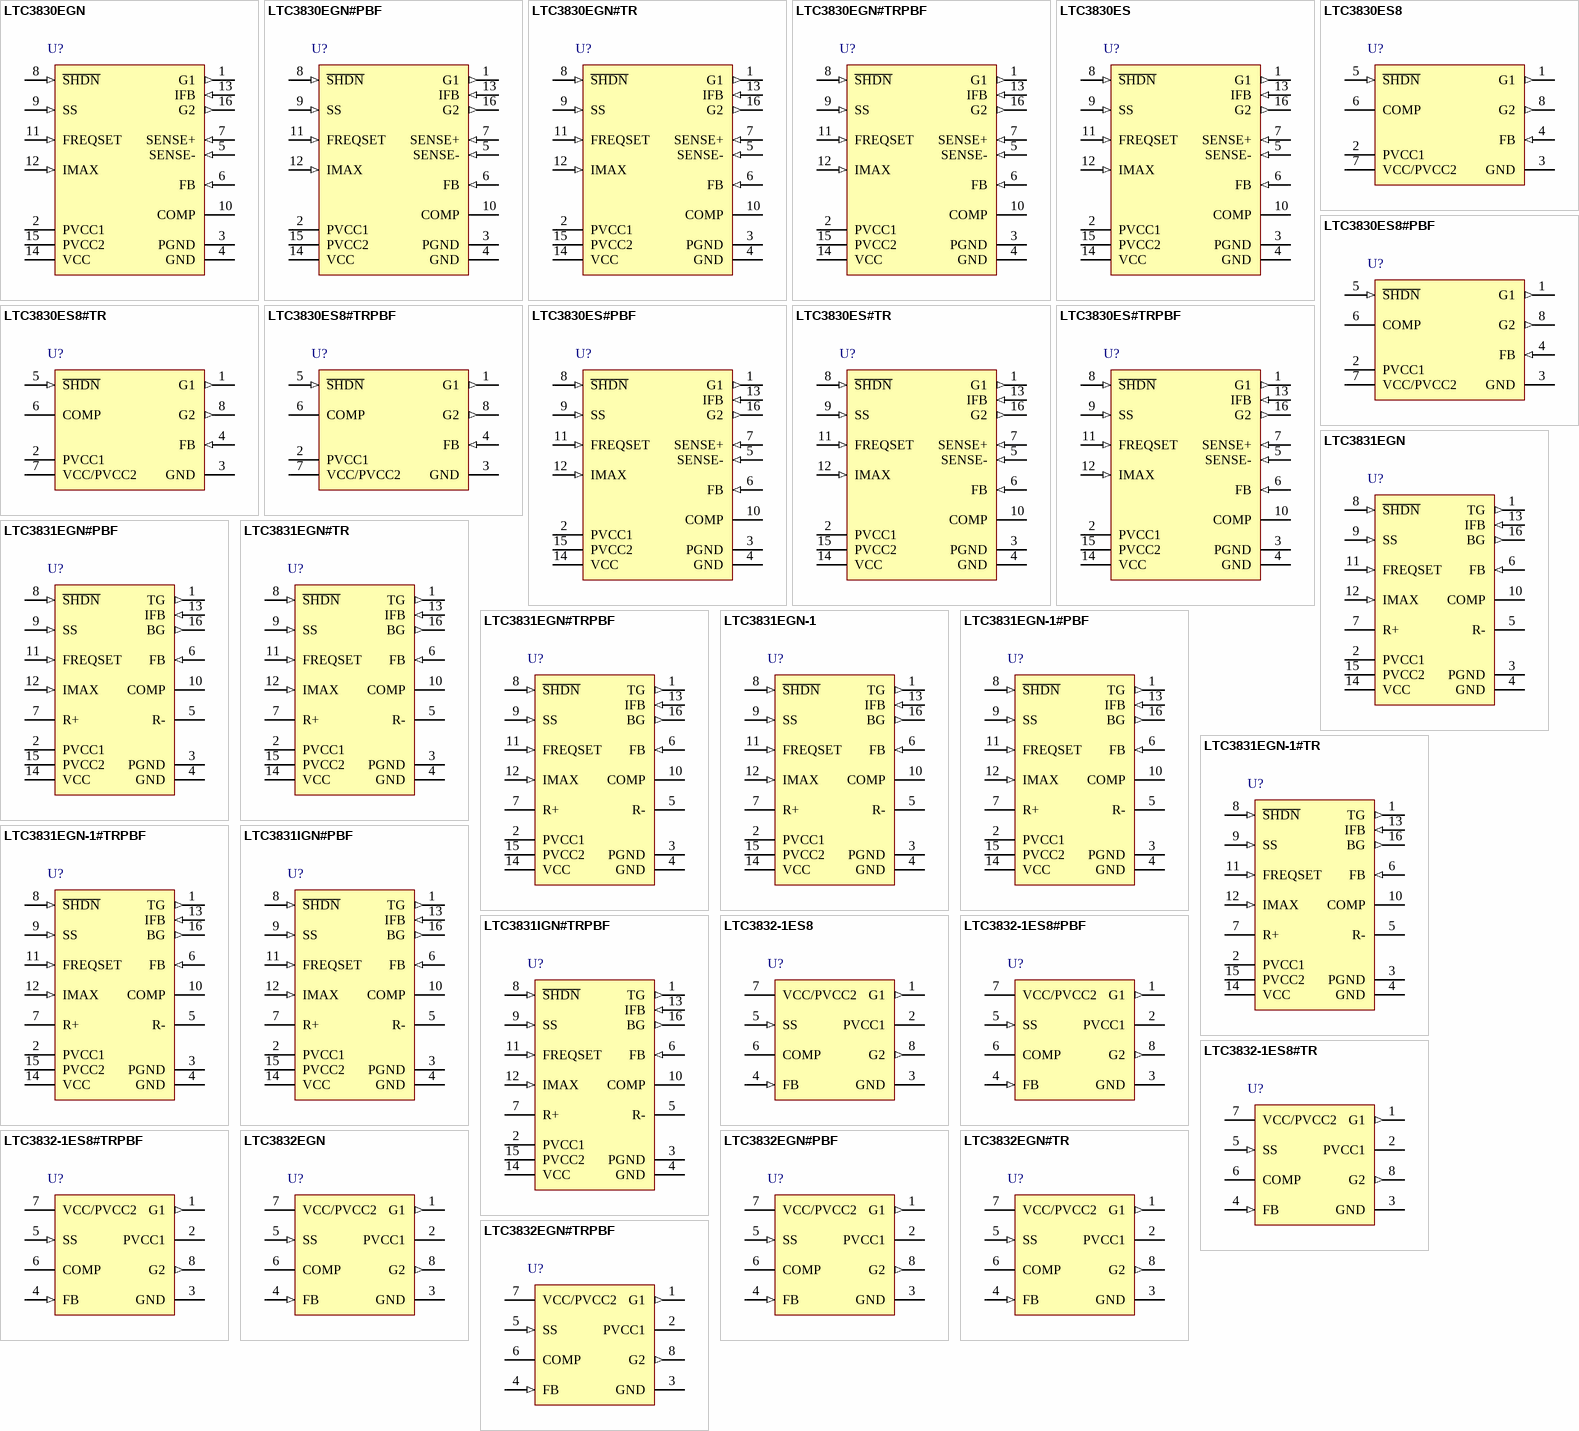
[diagram p85: symbols LTC3830EGN to LTC3832EGN#TRPBF]

## LTC3830EGN
designator U?
High Power Step-Down Synchronous DC/DC Controller for Low Voltage Operation, 16-pin SOP (GN-16), -40 to 85 degC; Manufacturer: Linear Technology; PartNumber: LTC3830EGN; Number of Outputs: 1; PackageReference: GN-16; PackageDescription: 16-Pin Plastic SSOP, Body 4.9 x 3.9 mm, Pitch 0.635 mm; Supplier 1: Digi-Key; Supplier Part Number 1: LTC3830EGN-ND; RoHS: FALSE
footprint LT-GN-16_N (SOP, 16-Leads, Body 5x4mm, Pitch 0.635mm, IPC Medium Density)
footprint LT-GN-16_L (SOP, 16-Leads, Body 5x4mm, Pitch 0.635mm, IPC High Density)
footprint LT-GN-16_M (SOP, 16-Leads, Body 5x4mm, Pitch 0.635mm, IPC Low Density)
pins: 1 G1 (out) "Top Gate Driver Output. Connect this pin to the gate of the upper N-channel MOSFET, Q1. This output swings from PGND to PVCC1. It remains low if G2 is high or during shutdown mode.", 2 PVCC1 (power) "Power Supply Input for G1. Connect this pin to a potential of at least VIN + VGS(ON)(Q1). This potential can be generated using an external supply or charge pump.", 3 PGND (power) "Power Ground. Both drivers return to this pin. Connect this pin to a low impedance ground in close proximity to the source of Q2. Refer to the Layout Consideration section for more details on PCB layout techniques. The (See Datasheet)", 4 GND (power) "Signal Ground. All low power internal circuitry returns to this pin. To minimize regulation errors due to ground currents, connect GND to PGND right at the LTC3830.", 5 SENSE- (in) "These three pins connect to the internal resistor divider and input of the error amplifier. To use the internal divider to set the output voltage to 3.3V, connect SENSE+ to the positive terminal of the output capacitor and (See Datasheet)", 6 FB (in) "These three pins connect to the internal resistor divider and input of the error amplifier. To use the internal divider to set the output voltage to 3.3V, connect SENSE+ to the positive terminal of the output capacitor and (See Datasheet)", 7 SENSE+ (in) "These three pins connect to the internal resistor divider and input of the error amplifier. To use the internal divider to set the output voltage to 3.3V, connect SENSE+ to the positive terminal of the output capacitor and (See Datasheet)", 8 ~{SHDN} (in) "Shutdown. A TTL compatible low level at S\H\D\N\ for longer than 100us puts the LTC3830 into shutdown mode. In shutdown, G1 and G2 go low, all internal circuits are disabled and the quiescent current drops to 10uA max. A TTL (See Datasheet)", 9 SS (in) "Soft-Start. Connect this pin to an external capacitor, CSS, to implement a soft-start function. If the LTC3830 goes into current limit, CSS is discharged to reduce the duty cycle. CSS must be selected such that during (See Datasheet)", 10 COMP "External Compensation. This pin internally connects to the output of the error amplifier and input of the PWM comparator. Use a RC + C network at this pin to compensate the feedback loop to provide optimum transient response.", 11 FREQSET (in) "Frequency Set. Use this pin to adjust the free-running frequency of the internal oscillator. With the pin floating, the oscillator runs at about 200kHz. A resistor from FREQSET to ground speeds up the oscillator; a resistor (See Datasheet)", 12 IMAX (in) "Current Limit Threshold Set. IMAX sets the threshold for the internal current limit comparator. If IFB drops below IMAX with G1 on, the LTC3830 goes into current limit. IMAX has an internal 12uA pull-down to GND. Connect (See Datasheet)", 13 IFB (in) "Current Limit Sense. Connect this pin to the switching node at the source of Q1 and the drain of Q2 through a 1k resistor. The 1k resistor is required to prevent voltage transients from damaging IFB.This pin is used for (See Datasheet)", 14 VCC (power) "Power Supply Input. All low power internal circuits draw their supply from this pin. Connect this pin to a clean power supply, separate from the main VIN supply at the drain of Q1. This pin requires a 4.7uF bypass capacitor. (See Datasheet)", 15 PVCC2 (power) "Power Supply Input for G2. Connect this pin to the main high power supply.", 16 G2 (out) "Bottom Gate Driver Output. Connect this pin to the gate of the lower N-channel MOSFET, Q2. This output swings from PGND to PVCC2. It remains low when G1 is high or during shutdown mode. To prevent output undershoot during a (See Datasheet)"

## LTC3830EGN#PBF
designator U?
High Power Step-Down Synchronous DC/DC Controller for Low Voltage Operation, 16-pin SOP (GN-16), -40 to 85 degC, Pb-Free; Manufacturer: Linear Technology; PartNumber: LTC3830EGN#PBF; Number of Outputs: 1; PackageReference: GN-16; PackageDescription: 16-Pin Plastic SSOP, Body 4.9 x 3.9 mm, Pitch 0.635 mm; Supplier 1: Digi-Key; Supplier Part Number 1: LTC3830EGN#PBF-ND; RoHS: TRUE
footprint LT-GN-16_N (SOP, 16-Leads, Body 5x4mm, Pitch 0.635mm, IPC Medium Density)
footprint LT-GN-16_L (SOP, 16-Leads, Body 5x4mm, Pitch 0.635mm, IPC High Density)
footprint LT-GN-16_M (SOP, 16-Leads, Body 5x4mm, Pitch 0.635mm, IPC Low Density)
pins: 1 G1 (out) "Top Gate Driver Output. Connect this pin to the gate of the upper N-channel MOSFET, Q1. This output swings from PGND to PVCC1. It remains low if G2 is high or during shutdown mode.", 2 PVCC1 (power) "Power Supply Input for G1. Connect this pin to a potential of at least VIN + VGS(ON)(Q1). This potential can be generated using an external supply or charge pump.", 3 PGND (power) "Power Ground. Both drivers return to this pin. Connect this pin to a low impedance ground in close proximity to the source of Q2. Refer to the Layout Consideration section for more details on PCB layout techniques. The (See Datasheet)", 4 GND (power) "Signal Ground. All low power internal circuitry returns to this pin. To minimize regulation errors due to ground currents, connect GND to PGND right at the LTC3830.", 5 SENSE- (in) "These three pins connect to the internal resistor divider and input of the error amplifier. To use the internal divider to set the output voltage to 3.3V, connect SENSE+ to the positive terminal of the output capacitor and (See Datasheet)", 6 FB (in) "These three pins connect to the internal resistor divider and input of the error amplifier. To use the internal divider to set the output voltage to 3.3V, connect SENSE+ to the positive terminal of the output capacitor and (See Datasheet)", 7 SENSE+ (in) "These three pins connect to the internal resistor divider and input of the error amplifier. To use the internal divider to set the output voltage to 3.3V, connect SENSE+ to the positive terminal of the output capacitor and (See Datasheet)", 8 ~{SHDN} (in) "Shutdown. A TTL compatible low level at S\H\D\N\ for longer than 100us puts the LTC3830 into shutdown mode. In shutdown, G1 and G2 go low, all internal circuits are disabled and the quiescent current drops to 10uA max. A TTL (See Datasheet)", 9 SS (in) "Soft-Start. Connect this pin to an external capacitor, CSS, to implement a soft-start function. If the LTC3830 goes into current limit, CSS is discharged to reduce the duty cycle. CSS must be selected such that during (See Datasheet)", 10 COMP "External Compensation. This pin internally connects to the output of the error amplifier and input of the PWM comparator. Use a RC + C network at this pin to compensate the feedback loop to provide optimum transient response.", 11 FREQSET (in) "Frequency Set. Use this pin to adjust the free-running frequency of the internal oscillator. With the pin floating, the oscillator runs at about 200kHz. A resistor from FREQSET to ground speeds up the oscillator; a resistor (See Datasheet)", 12 IMAX (in) "Current Limit Threshold Set. IMAX sets the threshold for the internal current limit comparator. If IFB drops below IMAX with G1 on, the LTC3830 goes into current limit. IMAX has an internal 12uA pull-down to GND. Connect (See Datasheet)", 13 IFB (in) "Current Limit Sense. Connect this pin to the switching node at the source of Q1 and the drain of Q2 through a 1k resistor. The 1k resistor is required to prevent voltage transients from damaging IFB.This pin is used for (See Datasheet)", 14 VCC (power) "Power Supply Input. All low power internal circuits draw their supply from this pin. Connect this pin to a clean power supply, separate from the main VIN supply at the drain of Q1. This pin requires a 4.7uF bypass capacitor. (See Datasheet)", 15 PVCC2 (power) "Power Supply Input for G2. Connect this pin to the main high power supply.", 16 G2 (out) "Bottom Gate Driver Output. Connect this pin to the gate of the lower N-channel MOSFET, Q2. This output swings from PGND to PVCC2. It remains low when G1 is high or during shutdown mode. To prevent output undershoot during a (See Datasheet)"

## LTC3830EGN#TR
designator U?
High Power Step-Down Synchronous DC/DC Controller for Low Voltage Operation, 16-pin SOP (GN-16), -40 to 85 degC, Tape and Reel; Manufacturer: Linear Technology; PartNumber: LTC3830EGN#TR; Number of Outputs: 1; PackageReference: GN-16; PackageDescription: 16-Pin Plastic SSOP, Body 4.9 x 3.9 mm, Pitch 0.635 mm; Supplier 1: Digi-Key; Supplier Part Number 1: LTC3830EGNTR-ND; RoHS: FALSE
footprint LT-GN-16_N (SOP, 16-Leads, Body 5x4mm, Pitch 0.635mm, IPC Medium Density)
footprint LT-GN-16_L (SOP, 16-Leads, Body 5x4mm, Pitch 0.635mm, IPC High Density)
footprint LT-GN-16_M (SOP, 16-Leads, Body 5x4mm, Pitch 0.635mm, IPC Low Density)
pins: 1 G1 (out) "Top Gate Driver Output. Connect this pin to the gate of the upper N-channel MOSFET, Q1. This output swings from PGND to PVCC1. It remains low if G2 is high or during shutdown mode.", 2 PVCC1 (power) "Power Supply Input for G1. Connect this pin to a potential of at least VIN + VGS(ON)(Q1). This potential can be generated using an external supply or charge pump.", 3 PGND (power) "Power Ground. Both drivers return to this pin. Connect this pin to a low impedance ground in close proximity to the source of Q2. Refer to the Layout Consideration section for more details on PCB layout techniques. The (See Datasheet)", 4 GND (power) "Signal Ground. All low power internal circuitry returns to this pin. To minimize regulation errors due to ground currents, connect GND to PGND right at the LTC3830.", 5 SENSE- (in) "These three pins connect to the internal resistor divider and input of the error amplifier. To use the internal divider to set the output voltage to 3.3V, connect SENSE+ to the positive terminal of the output capacitor and (See Datasheet)", 6 FB (in) "These three pins connect to the internal resistor divider and input of the error amplifier. To use the internal divider to set the output voltage to 3.3V, connect SENSE+ to the positive terminal of the output capacitor and (See Datasheet)", 7 SENSE+ (in) "These three pins connect to the internal resistor divider and input of the error amplifier. To use the internal divider to set the output voltage to 3.3V, connect SENSE+ to the positive terminal of the output capacitor and (See Datasheet)", 8 ~{SHDN} (in) "Shutdown. A TTL compatible low level at S\H\D\N\ for longer than 100us puts the LTC3830 into shutdown mode. In shutdown, G1 and G2 go low, all internal circuits are disabled and the quiescent current drops to 10uA max. A TTL (See Datasheet)", 9 SS (in) "Soft-Start. Connect this pin to an external capacitor, CSS, to implement a soft-start function. If the LTC3830 goes into current limit, CSS is discharged to reduce the duty cycle. CSS must be selected such that during (See Datasheet)", 10 COMP "External Compensation. This pin internally connects to the output of the error amplifier and input of the PWM comparator. Use a RC + C network at this pin to compensate the feedback loop to provide optimum transient response.", 11 FREQSET (in) "Frequency Set. Use this pin to adjust the free-running frequency of the internal oscillator. With the pin floating, the oscillator runs at about 200kHz. A resistor from FREQSET to ground speeds up the oscillator; a resistor (See Datasheet)", 12 IMAX (in) "Current Limit Threshold Set. IMAX sets the threshold for the internal current limit comparator. If IFB drops below IMAX with G1 on, the LTC3830 goes into current limit. IMAX has an internal 12uA pull-down to GND. Connect (See Datasheet)", 13 IFB (in) "Current Limit Sense. Connect this pin to the switching node at the source of Q1 and the drain of Q2 through a 1k resistor. The 1k resistor is required to prevent voltage transients from damaging IFB.This pin is used for (See Datasheet)", 14 VCC (power) "Power Supply Input. All low power internal circuits draw their supply from this pin. Connect this pin to a clean power supply, separate from the main VIN supply at the drain of Q1. This pin requires a 4.7uF bypass capacitor. (See Datasheet)", 15 PVCC2 (power) "Power Supply Input for G2. Connect this pin to the main high power supply.", 16 G2 (out) "Bottom Gate Driver Output. Connect this pin to the gate of the lower N-channel MOSFET, Q2. This output swings from PGND to PVCC2. It remains low when G1 is high or during shutdown mode. To prevent output undershoot during a (See Datasheet)"

## LTC3830EGN#TRPBF
designator U?
High Power Step-Down Synchronous DC/DC Controller for Low Voltage Operation, 16-pin SOP (GN-16), -40 to 85 degC, Pb-Free, Tape and Reel; Manufacturer: Linear Technology; PartNumber: LTC3830EGN#TRPBF; Number of Outputs: 1; PackageReference: GN-16; PackageDescription: 16-Pin Plastic SSOP, Body 4.9 x 3.9 mm, Pitch 0.635 mm; Supplier 1: Digi-Key; Supplier Part Number 1: LTC3830EGN#TRPBF-ND; RoHS: TRUE
footprint LT-GN-16_N (SOP, 16-Leads, Body 5x4mm, Pitch 0.635mm, IPC Medium Density)
footprint LT-GN-16_L (SOP, 16-Leads, Body 5x4mm, Pitch 0.635mm, IPC High Density)
footprint LT-GN-16_M (SOP, 16-Leads, Body 5x4mm, Pitch 0.635mm, IPC Low Density)
pins: 1 G1 (out) "Top Gate Driver Output. Connect this pin to the gate of the upper N-channel MOSFET, Q1. This output swings from PGND to PVCC1. It remains low if G2 is high or during shutdown mode.", 2 PVCC1 (power) "Power Supply Input for G1. Connect this pin to a potential of at least VIN + VGS(ON)(Q1). This potential can be generated using an external supply or charge pump.", 3 PGND (power) "Power Ground. Both drivers return to this pin. Connect this pin to a low impedance ground in close proximity to the source of Q2. Refer to the Layout Consideration section for more details on PCB layout techniques. The (See Datasheet)", 4 GND (power) "Signal Ground. All low power internal circuitry returns to this pin. To minimize regulation errors due to ground currents, connect GND to PGND right at the LTC3830.", 5 SENSE- (in) "These three pins connect to the internal resistor divider and input of the error amplifier. To use the internal divider to set the output voltage to 3.3V, connect SENSE+ to the positive terminal of the output capacitor and (See Datasheet)", 6 FB (in) "These three pins connect to the internal resistor divider and input of the error amplifier. To use the internal divider to set the output voltage to 3.3V, connect SENSE+ to the positive terminal of the output capacitor and (See Datasheet)", 7 SENSE+ (in) "These three pins connect to the internal resistor divider and input of the error amplifier. To use the internal divider to set the output voltage to 3.3V, connect SENSE+ to the positive terminal of the output capacitor and (See Datasheet)", 8 ~{SHDN} (in) "Shutdown. A TTL compatible low level at S\H\D\N\ for longer than 100us puts the LTC3830 into shutdown mode. In shutdown, G1 and G2 go low, all internal circuits are disabled and the quiescent current drops to 10uA max. A TTL (See Datasheet)", 9 SS (in) "Soft-Start. Connect this pin to an external capacitor, CSS, to implement a soft-start function. If the LTC3830 goes into current limit, CSS is discharged to reduce the duty cycle. CSS must be selected such that during (See Datasheet)", 10 COMP "External Compensation. This pin internally connects to the output of the error amplifier and input of the PWM comparator. Use a RC + C network at this pin to compensate the feedback loop to provide optimum transient response.", 11 FREQSET (in) "Frequency Set. Use this pin to adjust the free-running frequency of the internal oscillator. With the pin floating, the oscillator runs at about 200kHz. A resistor from FREQSET to ground speeds up the oscillator; a resistor (See Datasheet)", 12 IMAX (in) "Current Limit Threshold Set. IMAX sets the threshold for the internal current limit comparator. If IFB drops below IMAX with G1 on, the LTC3830 goes into current limit. IMAX has an internal 12uA pull-down to GND. Connect (See Datasheet)", 13 IFB (in) "Current Limit Sense. Connect this pin to the switching node at the source of Q1 and the drain of Q2 through a 1k resistor. The 1k resistor is required to prevent voltage transients from damaging IFB.This pin is used for (See Datasheet)", 14 VCC (power) "Power Supply Input. All low power internal circuits draw their supply from this pin. Connect this pin to a clean power supply, separate from the main VIN supply at the drain of Q1. This pin requires a 4.7uF bypass capacitor. (See Datasheet)", 15 PVCC2 (power) "Power Supply Input for G2. Connect this pin to the main high power supply.", 16 G2 (out) "Bottom Gate Driver Output. Connect this pin to the gate of the lower N-channel MOSFET, Q2. This output swings from PGND to PVCC2. It remains low when G1 is high or during shutdown mode. To prevent output undershoot during a (See Datasheet)"